# EAGLE library part IFX1763_PAD (library COM_ETH-V1)
Infineon IFX1763 LDO with exposed pad Device: - IFX1763_PADNOP = device without solder paste on the exposed pad - IFX1763_PADWIP = device with solder paste on the exposed pad
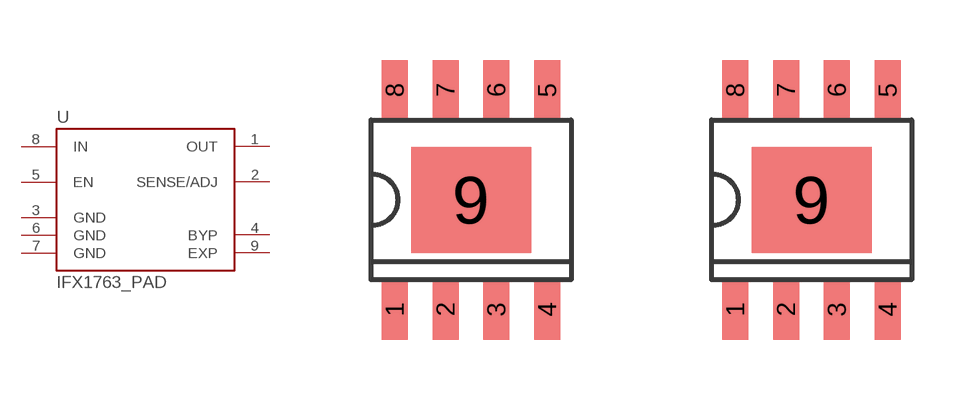
[diagram p5: symbol with the pads of PG-DSO-8-27_NO-PASTE; footprints PG-DSO-8-27_NO-PASTE, PG-DSO-8-27]

Designator prefix U

## IFX1763_PADNOP  [PG-DSO-8-27_NO-PASTE]
1  OUT  pwr
2  SENSE/ADJ  pas
3  GND  pwr
4  BYP  pas
5  EN  in
6  GND  pwr
7  GND  pwr
8  IN  pwr
9  EXP  pwr

## IFX1763_PADWIP  [PG-DSO-8-27]
Pads as for PG-DSO-8-27_NO-PASTE

## Footprint PG-DSO-8-27_NO-PASTE (pad centres in mm)
Infineon P/PG-DSO-8-27 (exposed Pad) footprint NO SOLDERPASTE ON EXPOSED PAD
smd 0.65 x 1.51: 1 -1.905,-2.745; 2 -0.635,-2.745; 3 0.635,-2.745; 4 1.905,-2.745; 5 1.905,2.745; 6 0.635,2.745; 7 -0.635,2.745; 8 -1.905,2.745
smd 3 x 2.65: 9 0,0

## Footprint PG-DSO-8-27 (pad centres in mm)
Infineon P/PG-DSO-8-27 (exposed Pad) footprint
smd 0.65 x 1.51: 1 -1.905,-2.745; 2 -0.635,-2.745; 3 0.635,-2.745; 4 1.905,-2.745; 5 1.905,2.745; 6 0.635,2.745; 7 -0.635,2.745; 8 -1.905,2.745
smd 3 x 2.65: 9 0,0